# Altium schematic symbol library ST_Microcontroller.SchLib: 8 symbols
Pins are listed as number, name and electrical type; pins without a type are passive.

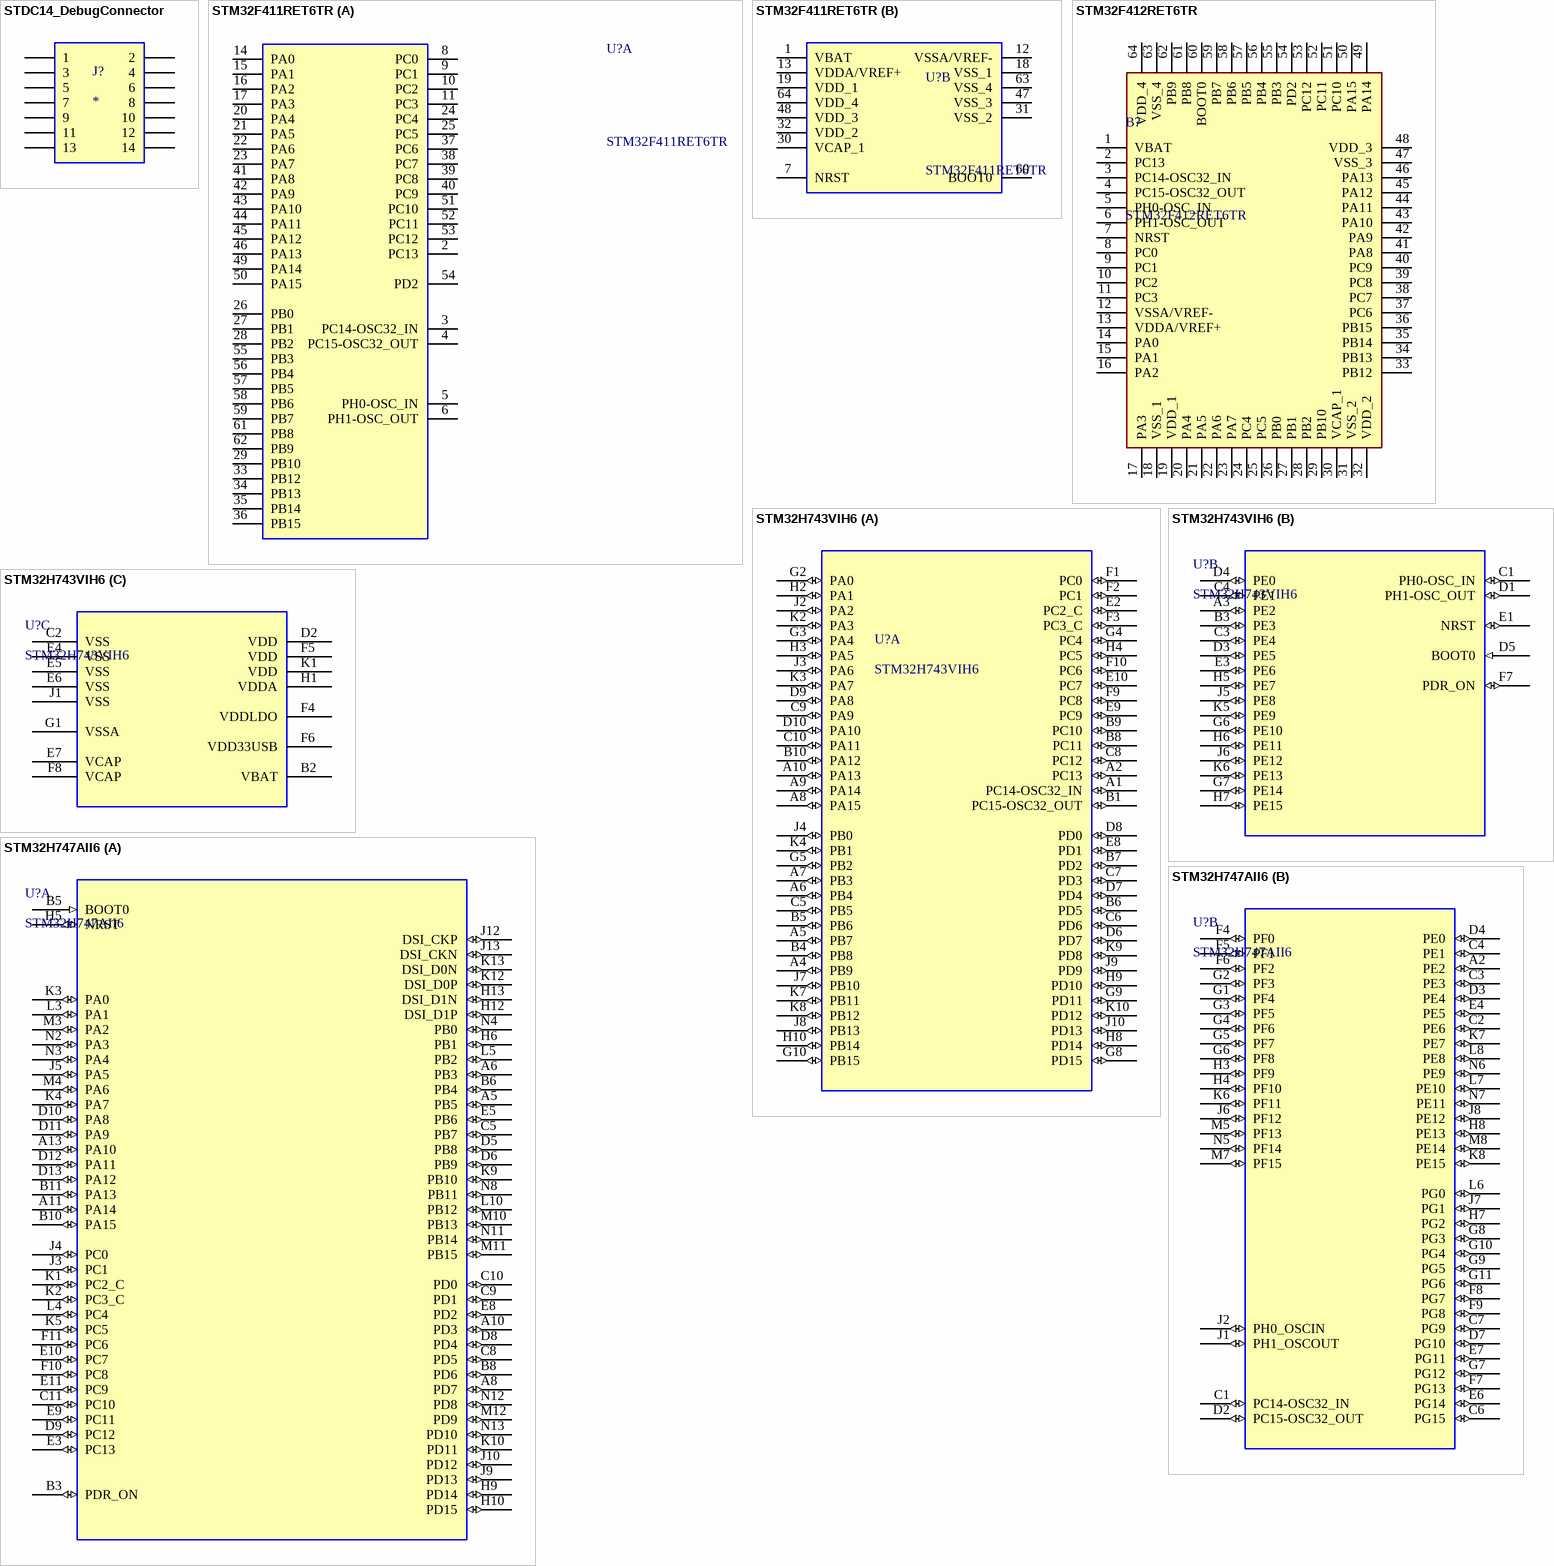
[diagram p0: symbols STDC14_DebugConnector to STM32H747AII6]

## STDC14_DebugConnector
designator J?
Supplier 1: DigiKey; Supplier Part Number 1: FTSH-107-01-L-DV-K-A-ND
pins: 1, 2, 3, 4, 5, 6, 7, 8, 9, 10, 11, 12, 13, 14

## STM32F411RET6TR
designator U?
ARM Microcontrollers - MCU High-performance access line, ARM Cortex-M4 core with DSP and FPU, 512 Kbytes Flash, 100 MHz CPU, ART Accelerator; Manufacturer_Name: STMicroelectronics; Geometry.Height: 1.6mm; Manufacturer_Part_Number: STM32F411RET6TR; Mouser Part Number: 511-STM32F411RET6TR; Mouser Price/Stock: https://www.mouser.co.uk/ProductDetail/STMicroelectronics/STM32F411RET6TR?qs=BA62vJVifGpaf6czDatkOw%3D%3D; Arrow Part Number: STM32F411RET6TR; Arrow Price/Stock: https://www.arrow.com/en/products/stm32f411ret6tr/stmicroelectronics?utm_currency=USD&region=nac; Datasheet Link: https://www.st.com/resource/en/datasheet/stm32f411ce.pdf
footprint QFP50P1200X1200X160-64N
part A pins: 2 PC13, 3 PC14-OSC32_IN, 4 PC15-OSC32_OUT, 5 PH0-OSC_IN, 6 PH1-OSC_OUT, 8 PC0, 9 PC1, 10 PC2, 11 PC3, 14 PA0, 15 PA1, 16 PA2, 17 PA3, 20 PA4, 21 PA5, 22 PA6, 23 PA7, 24 PC4, 25 PC5, 26 PB0, 27 PB1, 28 PB2, 29 PB10, 33 PB12, 34 PB13, 35 PB14, 36 PB15, 37 PC6, 38 PC7, 39 PC8, 40 PC9, 41 PA8, 42 PA9, 43 PA10, 44 PA11, 45 PA12, 46 PA13, 49 PA14, 50 PA15, 51 PC10, 52 PC11, 53 PC12, 54 PD2, 55 PB3, 56 PB4, 57 PB5, 58 PB6, 59 PB7, 61 PB8, 62 PB9
part B pins: 1 VBAT, 7 NRST, 12 VSSA/VREF-, 13 VDDA/VREF+, 18 VSS_1, 19 VDD_1, 30 VCAP_1, 31 VSS_2, 32 VDD_2, 47 VSS_3, 48 VDD_3, 60 BOOT0, 63 VSS_4, 64 VDD_4

## STM32F412RET6TR
designator B?
STMICROELECTRONICS - STM32F412RET6TR - ARM MCU, STM32 Family STM32F4 Series Microcontrollers, ARM Cortex-M4F, 32bit, 100 MHz, 512 KB; Geometry.Height: 1.6mm; Manufacturer_Name: STMicroelectronics; Manufacturer_Part_Number: STM32F412RET6TR; Mouser Part Number: 511-STM32F412RET6TR; Mouser Price/Stock: https://www.mouser.co.uk/ProductDetail/STMicroelectronics/STM32F412RET6TR?qs=FNcb6ahWXRxMPvv9rB%2F4cQ%3D%3D; Arrow Part Number: STM32F412RET6TR; Arrow Price/Stock: https://www.arrow.com/en/products/stm32f412ret6tr/stmicroelectronics.html?utm_currency=USD&region=nac; Datasheet Link: https://www.st.com/resource/en/datasheet/stm32f412ce.pdf
footprint QFP50P1200X1200X160-64M
pins: 1 VBAT, 2 PC13, 3 PC14-OSC32_IN, 4 PC15-OSC32_OUT, 5 PH0-OSC_IN, 6 PH1-OSC_OUT, 7 NRST, 8 PC0, 9 PC1, 10 PC2, 11 PC3, 12 VSSA/VREF-, 13 VDDA/VREF+, 14 PA0, 15 PA1, 16 PA2, 17 PA3, 18 VSS_1, 19 VDD_1, 20 PA4, 21 PA5, 22 PA6, 23 PA7, 24 PC4, 25 PC5, 26 PB0, 27 PB1, 28 PB2, 29 PB10, 30 VCAP_1, 31 VSS_2, 32 VDD_2, 33 PB12, 34 PB13, 35 PB14, 36 PB15, 37 PC6, 38 PC7, 39 PC8, 40 PC9, 41 PA8, 42 PA9, 43 PA10, 44 PA11, 45 PA12, 46 PA13, 47 VSS_3, 48 VDD_3, 49 PA14, 50 PA15, 51 PC10, 52 PC11, 53 PC12, 54 PD2, 55 PB3, 56 PB4, 57 PB5, 58 PB6, 59 PB7, 60 BOOT0, 61 PB8, 62 PB9, 63 VSS_4, 64 VDD_4

## STM32H743VIH6
designator U?
High-performance and DSP with DP-FPU, Arm Cortex-M7 MCU with 2MBytes of Flash memory, 1MB RAM, 480 MHz CPU, Art Accelerator, L1 cache, external memory interface, large set of peripherals; Manufacturer_Name: STMicroelectronics; Copyright: Copyright (C) 2025 Ultra Librarian. All rights reserved.; Manufacturer_Part_Number: STM32H743VIH6; Datasheet: https://www.st.com/resource/en/datasheet/stm32h743vi.pdf; RefDes: RefDes; Type: Type; Supplier 1: DigiKey; Supplier Part Number 1: 497-STM32H743VIH6-ND
footprint TFBGA100
part A pins: A1 PC14-OSC32_IN (io), A2 PC13 (io), A4 PB9 (io), A5 PB7 (io), A6 PB4 (io), A7 PB3 (io), A8 PA15 (io), A9 PA14 (io), A10 PA13 (io), B1 PC15-OSC32_OUT (io), B4 PB8 (io), B5 PB6 (io), B6 PD5 (io), B7 PD2 (io), B8 PC11 (io), B9 PC10 (io), B10 PA12 (io), C5 PB5 (io), C6 PD6 (io), C7 PD3 (io), C8 PC12 (io), C9 PA9 (io), C10 PA11 (io), D6 PD7 (io), D7 PD4 (io), D8 PD0 (io), D9 PA8 (io), D10 PA10 (io), E2 PC2_C (io), E8 PD1 (io), E9 PC9 (io), E10 PC7 (io), F1 PC0 (io), F2 PC1 (io), F3 PC3_C (io), F9 PC8 (io), F10 PC6 (io), G2 PA0 (io), G3 PA4 (io), G4 PC4 (io), G5 PB2 (io), G8 PD15 (io), G9 PD11 (io), G10 PB15 (io), H2 PA1 (io), H3 PA5 (io), H4 PC5 (io), H8 PD14 (io), H9 PD10 (io), H10 PB14 (io), J2 PA2 (io), J3 PA6 (io), J4 PB0 (io), J7 PB10 (io), J8 PB13 (io), J9 PD9 (io), J10 PD13 (io), K2 PA3 (io), K3 PA7 (io), K4 PB1 (io), K7 PB11 (io), K8 PB12 (io), K9 PD8 (io), K10 PD12 (io)
part B pins: A3 PE2 (io), B3 PE3 (io), C1 PH0-OSC_IN (io), C3 PE4 (io), C4 PE1 (io), D1 PH1-OSC_OUT (io), D3 PE5 (io), D4 PE0 (io), D5 BOOT0 (in), E1 NRST (io), E3 PE6 (io), F7 PDR_ON (io), G6 PE10 (io), G7 PE14 (io), H5 PE7 (io), H6 PE11 (io), H7 PE15 (io), J5 PE8 (io), J6 PE12 (io), K5 PE9 (io), K6 PE13 (io)
part C pins: B2 VBAT (power), C2 VSS (power), D2 VDD (power), E4 VSS (power), E5 VSS (power), E6 VSS (power), E7 VCAP (power), F4 VDDLDO (power), F5 VDD (power), F6 VDD33USB (power), F8 VCAP (power), G1 VSSA (power), H1 VDDA (power), J1 VSS (power), K1 VDD (power)

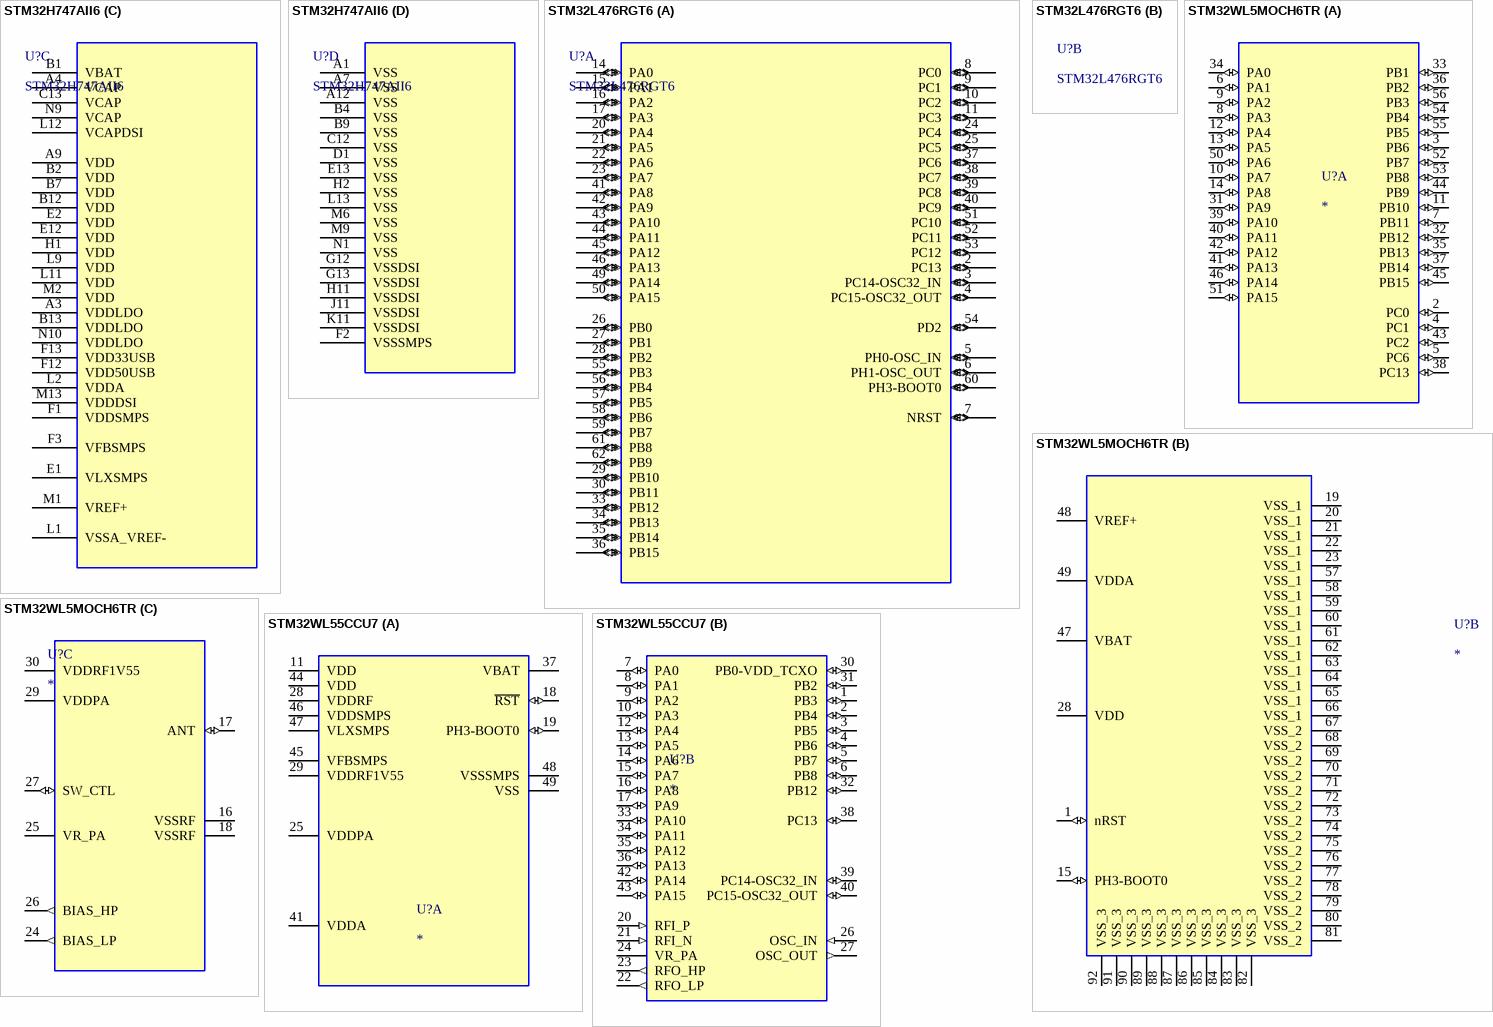
[diagram p1: symbols STM32H747AII6 to STM32WL55CCU7]

## STM32H747AII6
designator U?
High-performance and DSP with DP-FPU, Arm Cortex-M7 + Cortex-M4 MCU with 2MBytes of Flash memory, 1MB RAM, 480 MHz CPU, Art Accelerator, L1 cache, external memory interface, large set of peripherals, SMPS, MIPI-DSI; Manufacturer_Name: STMicroelectronics; Copyright: Copyright (C) 2025 Ultra Librarian. All rights reserved.; Manufacturer_Part_Number: STM32H747AII6; Datasheet: https://www.st.com/resource/en/datasheet/stm32h747ag.pdf; RefDes: RefDes; Type: Type
footprint UFBGA169
part A pins: A5 PB5 (io), A6 PB3 (io), A8 PD7 (io), A10 PD3 (io), A11 PA14 (io), A13 PA10 (io), B3 PDR_ON (io), B5 BOOT0 (in), B6 PB4 (io), B8 PD6 (io), B10 PA15 (io), B11 PA13 (io), C5 PB7 (io), C8 PD5 (io), C9 PD1 (io), C10 PD0 (io), C11 PC10 (io), D5 PB8 (io), D6 PB9 (io), D8 PD4 (io), D9 PC12 (io), D10 PA8 (io), D11 PA9 (io), D12 PA11 (io), D13 PA12 (io), E3 PC13 (io), E5 PB6 (io), E8 PD2 (io), E9 PC11 (io), E10 PC7 (io), E11 PC9 (io), F10 PC8 (io), F11 PC6 (io), H5 NRST (io), H6 PB1 (io), H9 PD14 (io), H10 PD15 (io), H12 DSI_D1P (io), H13 DSI_D1N (io), J3 PC1 (io), J4 PC0 (io), J5 PA5 (io), J9 PD13 (io), J10 PD12 (io), J12 DSI_CKP (io), J13 DSI_CKN (io), K1 PC2_C (io), K2 PC3_C (io), K3 PA0 (io), K4 PA7 (io), K5 PC5 (io), K9 PB10 (io), K10 PD11 (io), K12 DSI_D0P (io), K13 DSI_D0N (io), L3 PA1 (io), L4 PC4 (io), L5 PB2 (io), L10 PB12 (io), M3 PA2 (io), M4 PA6 (io), M10 PB13 (io), M11 PB15 (io), M12 PD9 (io), N2 PA3 (io), N3 PA4 (io), N4 PB0 (io), N8 PB11 (io), N11 PB14 (io), N12 PD8 (io), N13 PD10 (io)
part B pins: A2 PE2 (io), C1 PC14-OSC32_IN (io), C2 PE6 (io), C3 PE3 (io), C4 PE1 (io), C6 PG15 (io), C7 PG9 (io), D2 PC15-OSC32_OUT (io), D3 PE4 (io), D4 PE0 (io), D7 PG10 (io), E4 PE5 (io), E6 PG14 (io), E7 PG11 (io), F4 PF0 (io), F5 PF1 (io), F6 PF2 (io), F7 PG13 (io), F8 PG7 (io), F9 PG8 (io), G1 PF4 (io), G2 PF3 (io), G3 PF5 (io), G4 PF6 (io), G5 PF7 (io), G6 PF8 (io), G7 PG12 (io), G8 PG3 (io), G9 PG5 (io), G10 PG4 (io), G11 PG6 (io), H3 PF9 (io), H4 PF10 (io), H7 PG2 (io), H8 PE13 (io), J1 PH1_OSCOUT (io), J2 PH0_OSCIN (io), J6 PF12 (io), J7 PG1 (io), J8 PE12 (io), K6 PF11 (io), K7 PE7 (io), K8 PE15 (io), L6 PG0 (io), L7 PE10 (io), L8 PE8 (io), M5 PF13 (io), M7 PF15 (io), M8 PE14 (io), N5 PF14 (io), N6 PE9 (io), N7 PE11 (io)
part C pins: A3 VDDLDO (power), A4 VCAP (power), A9 VDD (power), B1 VBAT (power), B2 VDD (power), B7 VDD (power), B12 VDD (power), B13 VDDLDO (power), C13 VCAP (power), E1 VLXSMPS (power), E2 VDD (power), E12 VDD (power), F1 VDDSMPS (power), F3 VFBSMPS (power), F12 VDD50USB (power), F13 VDD33USB (power), H1 VDD (power), L1 VSSA_VREF- (power), L2 VDDA (power), L9 VDD (power), L11 VDD (power), L12 VCAPDSI (power), M1 VREF+ (power), M2 VDD (power), M13 VDDDSI (power), N9 VCAP (power), N10 VDDLDO (power)
part D pins: A1 VSS (power), A7 VSS (power), A12 VSS (power), B4 VSS (power), B9 VSS (power), C12 VSS (power), D1 VSS (power), E13 VSS (power), F2 VSSSMPS (power), G12 VSSDSI (power), G13 VSSDSI (power), H2 VSS (power), H11 VSSDSI (power), J11 VSSDSI (power), K11 VSSDSI (power), L13 VSS (power), M6 VSS (power), M9 VSS (power), N1 VSS (power)

## STM32L476RGT6
designator U?
Low-power with FPU Arm Cortex-M4 MCU 80 MHz with 1 Mbyte of Flash memory, LCD, USB OTG, DFSDM; Manufacturer_Name: STMicroelectronics; Copyright: Copyright (C) 2025 Ultra Librarian. All rights reserved.; Manufacturer_Part_Number: STM32L476RGT6; Datasheet: https://www.st.com/resource/en/datasheet/stm32l476je.pdf; RefDes: RefDes; Type: Type
footprint LQFP-64_10X10
part A pins: 2 PC13 (io), 3 PC14-OSC32_IN (io), 4 PC15-OSC32_OUT (io), 5 PH0-OSC_IN (io), 6 PH1-OSC_OUT (io), 7 NRST (io), 8 PC0 (io), 9 PC1 (io), 10 PC2 (io), 11 PC3 (io), 14 PA0 (io), 15 PA1 (io), 16 PA2 (io), 17 PA3 (io), 20 PA4 (io), 21 PA5 (io), 22 PA6 (io), 23 PA7 (io), 24 PC4 (io), 25 PC5 (io), 26 PB0 (io), 27 PB1 (io), 28 PB2 (io), 29 PB10 (io), 30 PB11 (io), 33 PB12 (io), 34 PB13 (io), 35 PB14 (io), 36 PB15 (io), 37 PC6 (io), 38 PC7 (io), 39 PC8 (io), 40 PC9 (io), 41 PA8 (io), 42 PA9 (io), 43 PA10 (io), 44 PA11 (io), 45 PA12 (io), 46 PA13 (io), 49 PA14 (io), 50 PA15 (io), 51 PC10 (io), 52 PC11 (io), 53 PC12 (io), 54 PD2 (io), 55 PB3 (io), 56 PB4 (io), 57 PB5 (io), 58 PB6 (io), 59 PB7 (io), 60 PH3-BOOT0 (io), 61 PB8 (io), 62 PB9 (io)

## STM32WL5MOCH6TR
designator U?
IC RF TxRx + MCU General ISM < 1GHz LoRaWAN 1.0, Sigfox, Wireless M-Bus 864MHz ~ 928MHz; MF: STMicroelectronics; MP: STM32WL5MOCH6TR; SnapEDA_Link: https://www.snapeda.com/parts/STM32WL5MOCH6TR/STMicroelectronics/view-part/?ref=snap; Package: None; Value: *; Check_prices: https://www.snapeda.com/parts/STM32WL5MOCH6TR/STMicroelectronics/view-part/?ref=eda
footprint XCVR_STM32WL5MOCH6TR
part A pins: 2 PC0 (io), 3 PB6 (io), 4 PC1 (io), 5 PC6 (io), 6 PA1 (io), 7 PB11 (io), 8 PA3 (io), 9 PA2 (io), 10 PA7 (io), 11 PB10 (io), 12 PA4 (io), 13 PA5 (io), 14 PA8 (io), 31 PA9 (io), 32 PB12 (io), 33 PB1 (io), 34 PA0 (io), 35 PB13 (io), 36 PB2 (io), 37 PB14 (io), 38 PC13 (io), 39 PA10 (io), 40 PA11 (io), 41 PA13 (io), 42 PA12 (io), 43 PC2 (io), 44 PB9 (io), 45 PB15 (io), 46 PA14 (io), 50 PA6 (io), 51 PA15 (io), 52 PB7 (io), 53 PB8 (io), 54 PB4 (io), 55 PB5 (io), 56 PB3 (io)
part B pins: 1 nRST (io), 15 PH3-BOOT0 (io), 19 VSS_1 (power), 20 VSS_1 (power), 21 VSS_1 (power), 22 VSS_1 (power), 23 VSS_1 (power), 28 VDD (power), 47 VBAT (power), 48 VREF+ (power), 49 VDDA (power), 57 VSS_1 (power), 58 VSS_1 (power), 59 VSS_1 (power), 60 VSS_1 (power), 61 VSS_1 (power), 62 VSS_1 (power), 63 VSS_1 (power), 64 VSS_1 (power), 65 VSS_1 (power), 66 VSS_1 (power), 67 VSS_2 (power), 68 VSS_2 (power), 69 VSS_2 (power), 70 VSS_2 (power), 71 VSS_2 (power), 72 VSS_2 (power), 73 VSS_2 (power), 74 VSS_2 (power), 75 VSS_2 (power), 76 VSS_2 (power), 77 VSS_2 (power), 78 VSS_2 (power), 79 VSS_2 (power), 80 VSS_2 (power), 81 VSS_2 (power), 82 VSS_3 (power), 83 VSS_3 (power), 84 VSS_3 (power), 85 VSS_3 (power), 86 VSS_3 (power), 87 VSS_3 (power), 88 VSS_3 (power), 89 VSS_3 (power), 90 VSS_3 (power), 91 VSS_3 (power), 92 VSS_3 (power)
part C pins: 16 VSSRF (power), 17 ANT (io), 18 VSSRF (power), 24 BIAS_LP (out), 25 VR_PA (power), 26 BIAS_HP (out), 27 SW_CTL (io), 29 VDDPA (power), 30 VDDRF1V55 (power)

## STM32WL55CCU7
designator U?
IC RF TxRx + MCU 802.15.4 LoRaWAN 1.0, Sigfox 150MHz ~ 960MHz 48-UFQFN Exposed Pad; MF: STMicroelectronics; MP: STM32WL55CCU7; SnapEDA_Link: https://www.snapeda.com/parts/STM32WL55CCU7/STMicroelectronics/view-part/?ref=snap; Package: None; Value: *; Check_prices: https://www.snapeda.com/parts/STM32WL55CCU7/STMicroelectronics/view-part/?ref=eda
footprint QFN-50_700X700X65-49N
part A pins: 11 VDD (power), 18 ~{RST} (io), 19 PH3-BOOT0 (io), 25 VDDPA (power), 28 VDDRF (power), 29 VDDRF1V55 (power), 37 VBAT (power), 41 VDDA (power), 44 VDD (power), 45 VFBSMPS (power), 46 VDDSMPS (power), 47 VLXSMPS (power), 48 VSSSMPS (power), 49 VSS (power)
part B pins: 1 PB3 (io), 2 PB4 (io), 3 PB5 (io), 4 PB6 (io), 5 PB7 (io), 6 PB8 (io), 7 PA0 (io), 8 PA1 (io), 9 PA2 (io), 10 PA3 (io), 12 PA4 (io), 13 PA5 (io), 14 PA6 (io), 15 PA7 (io), 16 PA8 (io), 17 PA9 (io), 20 RFI_P (in), 21 RFI_N (in), 22 RFO_LP (out), 23 RFO_HP (out), 24 VR_PA (power), 26 OSC_IN (in), 27 OSC_OUT (out), 30 PB0-VDD_TCXO (io), 31 PB2 (io), 32 PB12 (io), 33 PA10 (io), 34 PA11 (io), 35 PA12 (io), 36 PA13 (io), 38 PC13 (io), 39 PC14-OSC32_IN (io), 40 PC15-OSC32_OUT (io), 42 PA14 (io), 43 PA15 (io)